# EAGLE library part ILQ1 (library digital_dash)
SIEMENS OPTO COUPLER
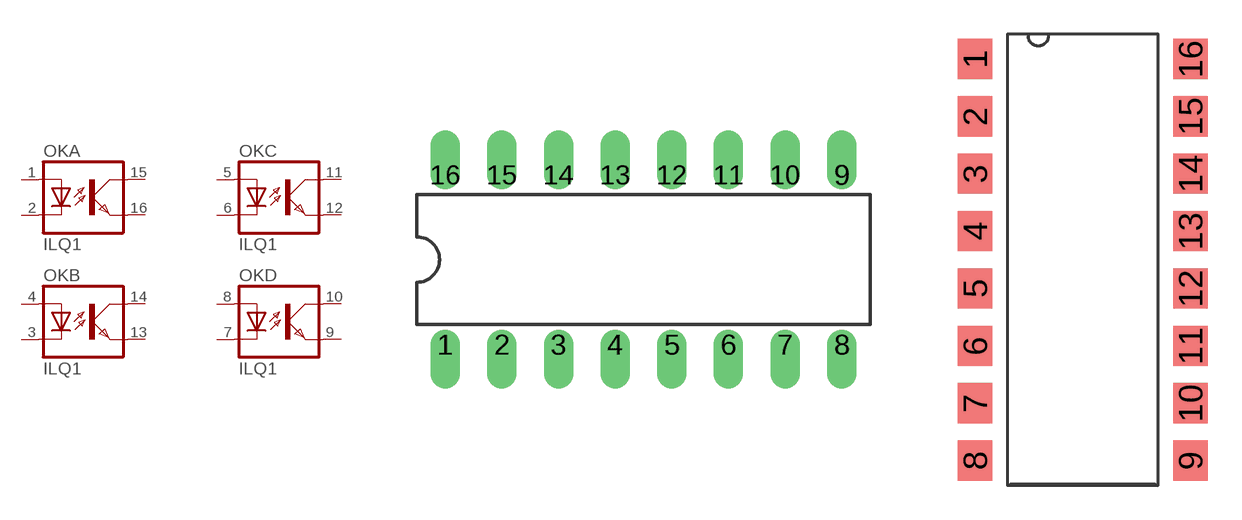
[diagram p6: symbol with the pads of DIL16; footprints DIL16, SMD16]

Designator prefix OK; gates A=OK B=OK C=OK D=OK

## ILQ1 (MF: VISHAY/TELEFUNKEN; MPN: ILQ1; OC_FARNELL: 1469501; OC_NEWARK: 88K1954)  [DIL16]
1  A:A  pas
2  A:C  pas
3  B:C  pas
4  B:A  pas
5  C:A  pas
6  C:C  pas
7  D:C  pas
8  D:A  pas
9  D:EMIT  pas
10  D:COL  pas
11  C:COL  pas
12  C:EMIT  pas
13  B:EMIT  pas
14  B:COL  pas
15  A:COL  pas
16  A:EMIT  pas

## ILQ1X009  [SMD16]
Pads as for DIL16

## Footprint DIL16 (pad centres in mm)
Dual In Line Package
drill 0.813 offset: 1 -8.89,-3.81; 2 -6.35,-3.81; 3 -3.81,-3.81; 4 -1.27,-3.81; 5 1.27,-3.81; 6 3.81,-3.81; 7 6.35,-3.81; 8 8.89,-3.81; 9 8.89,3.81; 10 6.35,3.81; 11 3.81,3.81; 12 1.27,3.81; 13 -1.27,3.81; 14 -3.81,3.81; 15 -6.35,3.81; 16 -8.89,3.81

## Footprint SMD16 (pad centres in mm)
SMD 4 Source: http://www.vishay.com/docs/83673/sfh618.pdf
smd 1.524 x 1.778: 1 -4.763,8.89; 2 -4.763,6.35; 3 -4.763,3.81; 4 -4.763,1.27; 5 -4.763,-1.27; 6 -4.763,-3.81; 7 -4.763,-6.35; 8 -4.763,-8.89; 9 4.763,-8.89; 10 4.763,-6.35; 11 4.763,-3.81; 12 4.763,-1.27; 13 4.763,1.27; 14 4.763,3.81; 15 4.763,6.35; 16 4.763,8.89